# Altium schematic symbol library M74R2_Library.SchLib: 74 symbols
Pins are listed as number, name and electrical type; pins without a type are passive.

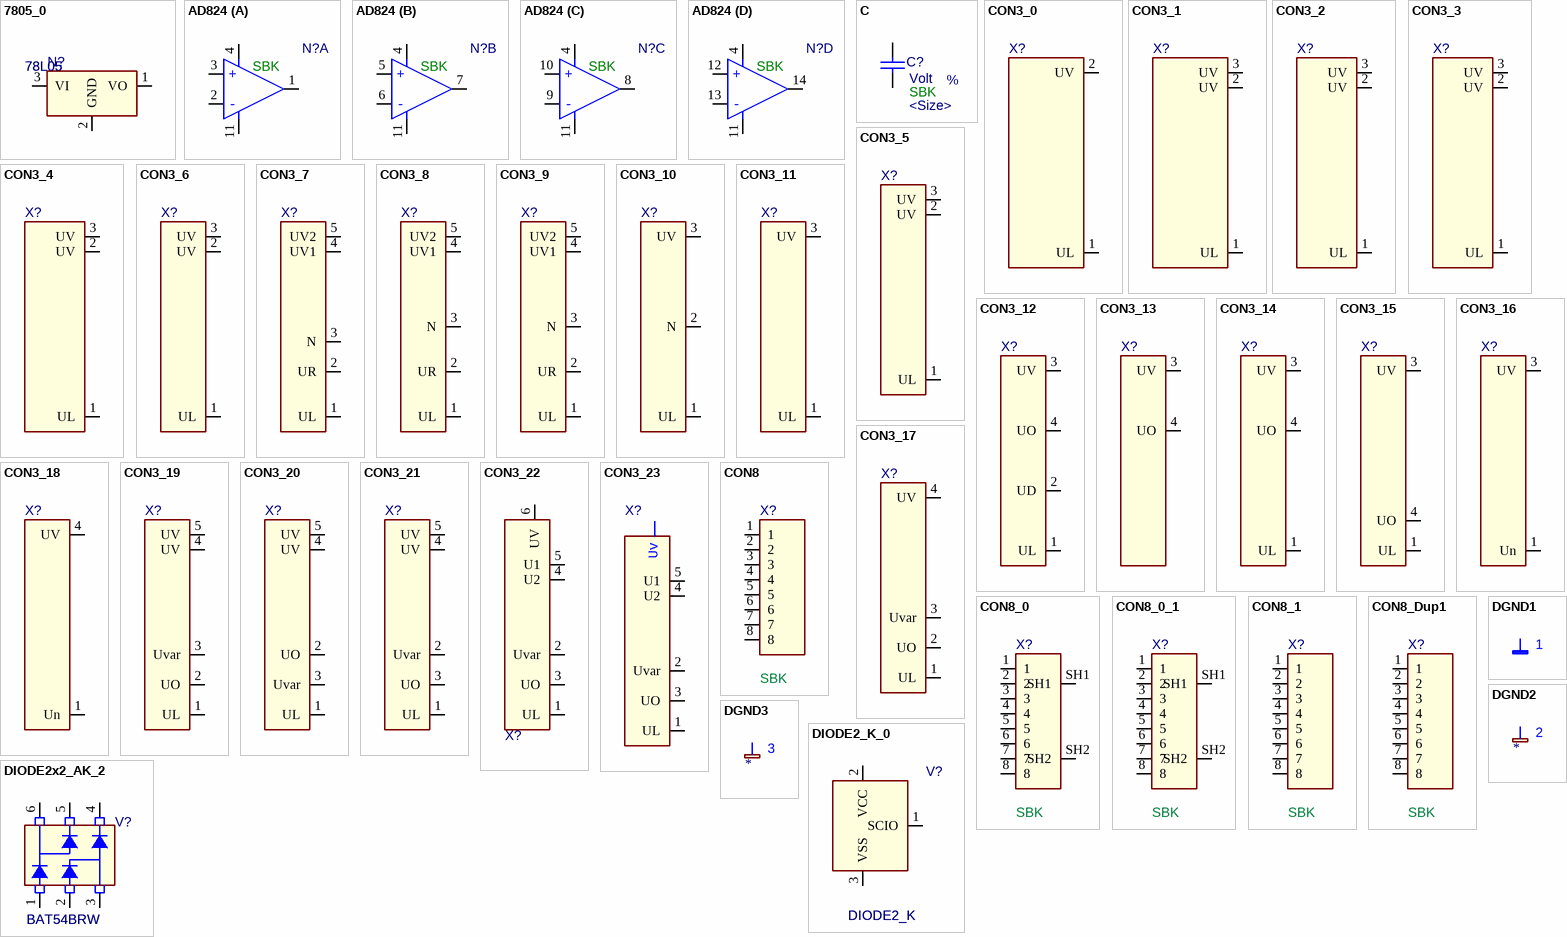
[diagram p0: symbols 7805_0 to DIODE2x2_AK_2]

## 7805_0
designator N?, comment 78L05
Value: 78L05
footprint T54A
pins: 1 VO, 2 GND, 3 VI

## AD824
designator N?  MEGA_ID: SBK
part A pins: 1 OUT, 2 IN-, 3 IN+, 4 V+, 11 V-
part B pins: 4 V+, 5 IN+, 6 IN-, 7 OUT, 11 V-
part C pins: 4 V+, 8 OUT, 9 IN-, 10 IN+, 11 V-
part D pins: 4 V+, 11 V-, 12 IN+, 13 IN-, 14 OUT
part A text: +; -
part B text: +; -
part C text: +; -
part D text: +; -

## C
designator C?  Size: <Size>  MEgA_ID: SBK  Tolerance: %  Voltage: Volt
footprint Z0805
pins: 1, 2

## CON3_0
designator X?
pins: 1 UL, 2 UV

## CON3_1
designator X?
pins: 1 UL, 2 UV, 3 UV

## CON3_2
designator X?
pins: 1 UL, 2 UV, 3 UV

## CON3_3
designator X?
pins: 1 UL, 2 UV, 3 UV

## CON3_4
designator X?
pins: 1 UL, 2 UV, 3 UV

## CON3_5
designator X?
pins: 1 UL, 2 UV, 3 UV

## CON3_6
designator X?
pins: 1 UL, 2 UV, 3 UV

## CON3_7
designator X?
pins: 1 UL, 2 UR, 3 N, 4 UV1, 5 UV2

## CON3_8
designator X?
pins: 1 UL, 2 UR, 3 N, 4 UV1, 5 UV2

## CON3_9
designator X?
pins: 1 UL, 2 UR, 3 N, 4 UV1, 5 UV2

## CON3_10
designator X?
pins: 1 UL, 2 N, 3 UV

## CON3_11
designator X?
pins: 1 UL, 3 UV

## CON3_12
designator X?
pins: 1 UL, 2 UD, 3 UV, 4 UO

## CON3_13
designator X?
pins: 3 UV, 4 UO

## CON3_14
designator X?
pins: 1 UL, 3 UV, 4 UO

## CON3_15
designator X?
pins: 1 UL, 3 UV, 4 UO

## CON3_16
designator X?
pins: 1 Un, 3 UV

## CON3_17
designator X?
pins: 1 UL, 2 UO, 3 Uvar, 4 UV

## CON3_18
designator X?
pins: 1 Un, 4 UV

## CON3_19
designator X?
pins: 1 UL, 2 UO, 3 Uvar, 4 UV, 5 UV

## CON3_20
designator X?
pins: 1 UL, 2 UO, 3 Uvar, 4 UV, 5 UV

## CON3_21
designator X?
pins: 1 UL, 2 Uvar, 3 UO, 4 UV, 5 UV

## CON3_22
designator X?
pins: 1 UL, 2 Uvar, 3 UO, 4 U2, 5 U1, 6 UV

## CON3_23
designator X?
pins: 1 UL, 2 Uvar, 3 UO, 4 U2, 5 U1
text: Uv

## CON8
designator X?  MEGA_ID: SBK
Potisk
pins: 1, 2, 3, 4, 5, 6, 7, 8

## CON8_0
designator X?  MEGA_ID: SBK
Potisk
pins: 1, 2, 3, 4, 5, 6, 7, 8, SH1, SH2

## CON8_0_1
designator X?  MEGA_ID: SBK
Potisk
pins: 1, 2, 3, 4, 5, 6, 7, 8, SH1, SH2

## CON8_1
designator X?  MEGA_ID: SBK
Potisk
pins: 1, 2, 3, 4, 5, 6, 7, 8

## CON8_Dup1
designator X?  MEGA_ID: SBK
Potisk
pins: 1, 2, 3, 4, 5, 6, 7, 8

## DGND1
designator *  (value not drawn)  (graphical)
pins: $PIN0 (power) hidden to $PIN0
text: 1

## DGND2
designator *  (value not drawn)
pins: $PIN0 (power) hidden to $PIN0
text: 2

## DGND3
designator *  (value not drawn)
pins: $PIN0 (power) hidden to $PIN0
text: 3

## DIODE2_K_0
designator V?, comment DIODE2_K
Value: DIODE2_K
footprint SOT23
pins: 1 SCIO, 2 VCC, 3 VSS

## DIODE2x2_AK_2
designator V?, comment BAT54BRW
Value: BAT54BRW
footprint ZSOT363
pins: 1 A1, 2 A2, 3 AK2, 4 K2, 5 K1, 6 AK1

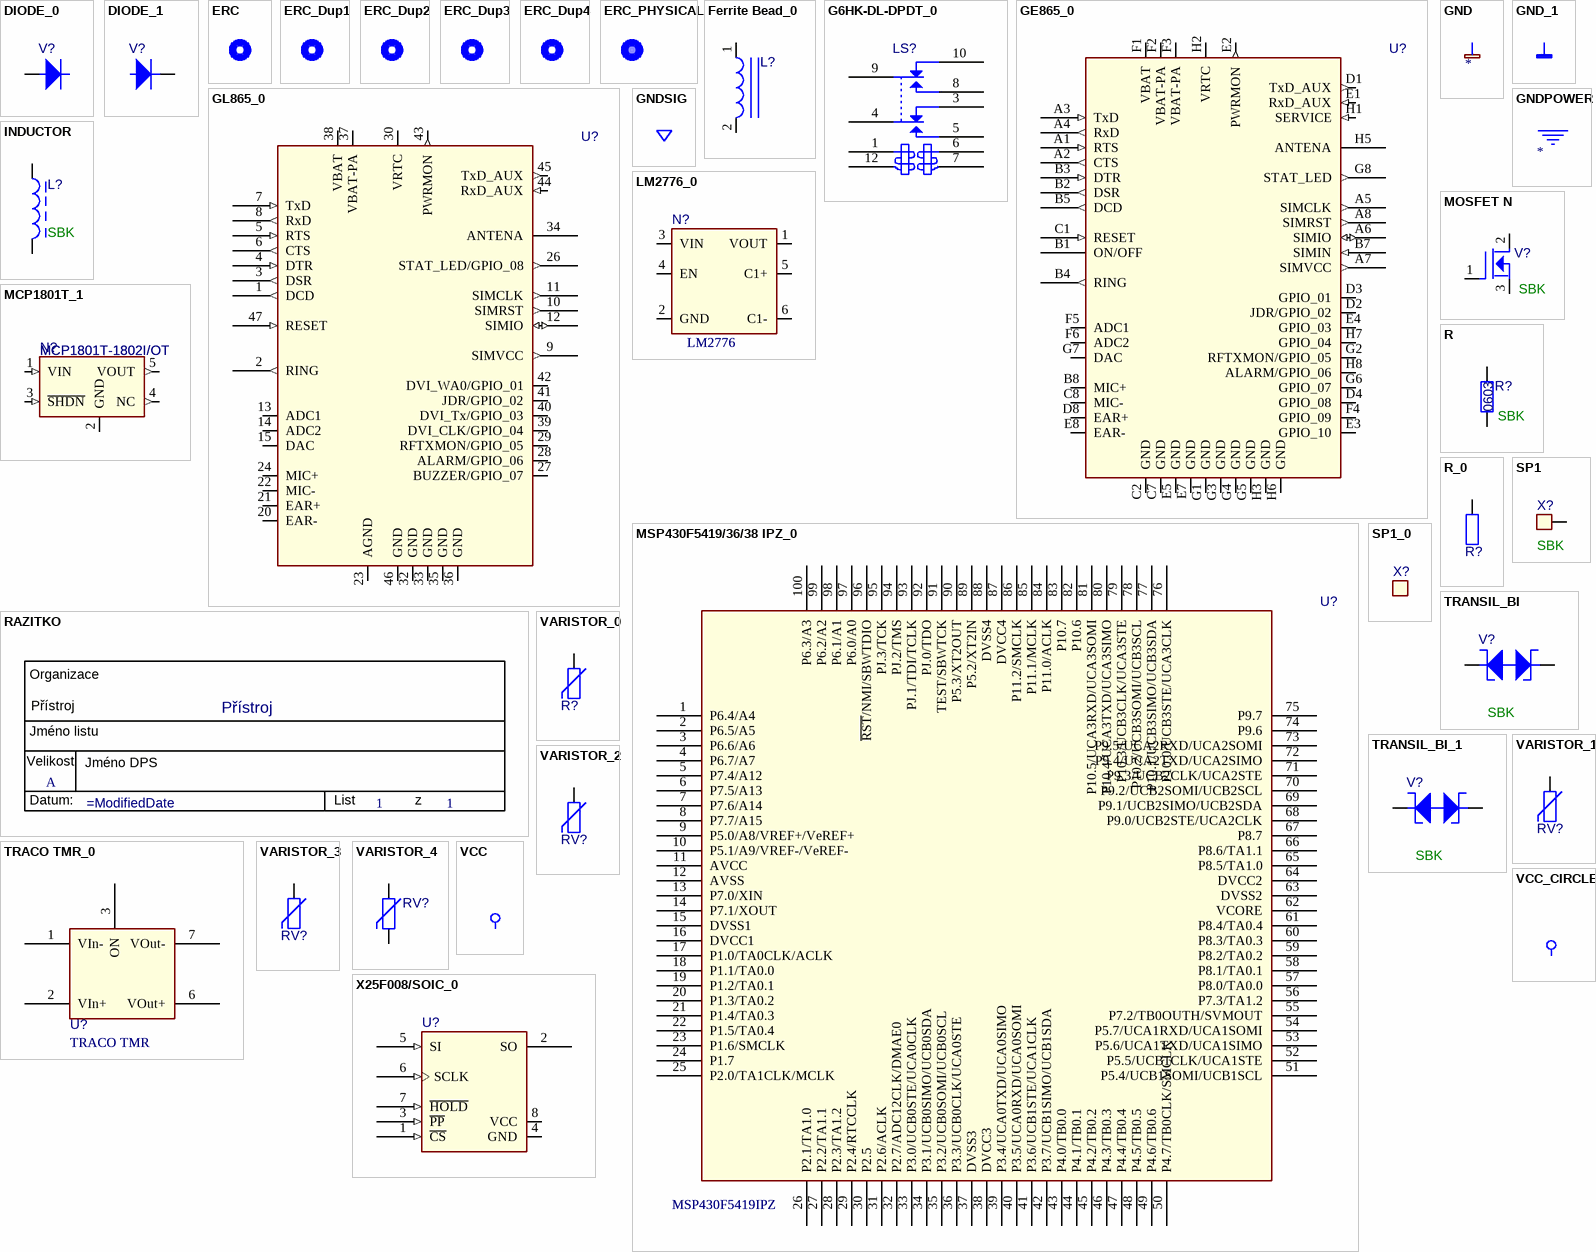
[diagram p1: symbols DIODE_0 to X25F008/SOIC_0]

## DIODE_0
designator V?
pins: 1 A

## DIODE_1
designator V?
pins: 2 K

## ERC
designator *  (value not drawn)  (graphical)

## ERC_Dup1
designator *  (value not drawn)  (graphical)

## ERC_Dup2
designator *  (value not drawn)  (graphical)

## ERC_Dup3
designator *  (value not drawn)  (graphical)

## ERC_Dup4
designator *  (value not drawn)  (graphical)

## ERC_PHYSICAL
designator *  (value not drawn)  (graphical)

## Ferrite Bead_0
designator L?
pins: 1, 2

## G6HK-DL-DPDT_0
designator LS?
pins: 1 SET+, 3 NC1, 4 COMMON1, 5 NO1, 6 RESET+, 7 RESET-, 8 NO2, 9 COMMON2, 10 NC2, 12 SET-

## GE865_0
designator U?
pins: A1 RTS (in), A2 CTS (out), A3 TxD (in), A4 RxD (out), A5 SIMCLK (out), A6 SIMIO (io), A7 SIMVCC (out), A8 SIMRST (out), B1 ON/OFF, B2 DSR (out), B3 DTR (in), B4 RING (out), B5 DCD (out), B7 SIMIN (in), B8 MIC+, C1 RESET (in), C2 GND (power), C7 GND (power), C8 MIC-, D1 TxD_AUX (out), D2 JDR/GPIO_02 (io), D3 GPIO_01 (io), D4 GPIO_08 (io), D8 EAR+, E1 RxD_AUX (in), E2 PWRMON (out), E3 GPIO_10 (io), E4 GPIO_03 (io), E5 GND (power), E7 GND (power), E8 EAR-, F1 VBAT (power), F2 VBAT-PA (power), F3 VBAT-PA (power), F4 GPIO_09 (io), F5 ADC1, F6 ADC2, G1 GND (power), G2 RFTXMON/GPIO_05 (io), G3 GND (power), G4 GND (power), G5 GND (power), G6 GPIO_07 (io), G7 DAC, G8 STAT_LED (out), H1 SERVICE (in), H2 VRTC, H3 GND (power), H5 ANTENA, H6 GND (power), H7 GPIO_04 (io), H8 ALARM/GPIO_06 (io)

## GL865_0
designator U?
pins: 1 DCD (out), 2 RING (out), 3 DSR (out), 4 DTR (in), 5 RTS (in), 6 CTS (out), 7 TxD (in), 8 RxD (out), 9 SIMVCC (out), 10 SIMRST (out), 11 SIMCLK (out), 12 SIMIO (io), 13 ADC1, 14 ADC2, 15 DAC, 20 EAR-, 21 EAR+, 22 MIC-, 23 AGND (power), 24 MIC+, 26 STAT_LED/GPIO_08 (out), 27 BUZZER/GPIO_07 (io), 28 ALARM/GPIO_06 (io), 29 RFTXMON/GPIO_05 (io), 30 VRTC, 32 GND (power), 33 GND (power), 34 ANTENA, 35 GND (power), 36 GND (power), 37 VBAT-PA (power), 38 VBAT (power), 39 DVI_CLK/GPIO_04 (io), 40 DVI_Tx/GPIO_03 (io), 41 JDR/GPIO_02 (io), 42 DVI_WA0/GPIO_01 (io), 43 PWRMON (out), 44 RxD_AUX (in), 45 TxD_AUX (out), 46 GND (power), 47 RESET (in)

## GND
designator *  (value not drawn)
pins: $PIN0 (power) hidden to $PIN0

## GND_1
designator *  (value not drawn)  (graphical)
pins: $PIN0 (power) hidden to $PIN0

## GNDPOWER
designator *  (value not drawn)
SDTSourceLibName: C:\rd\ui\DEVICE.LIB
pins: GND (power) hidden to GND

## GNDSIG
designator *  (value not drawn)  (graphical)
pins: GNDSIG (power) hidden to GNDSIG

## INDUCTOR
designator L?  MEGA_ID: SBK
pins: 1, 2

## LM2776_0
designator N?, comment LM2776
Value: LM2776
footprint SOT23-6
pins: 1 VOUT, 2 GND, 3 VIN, 4 EN, 5 C1+ (oe), 6 C1- (oc)

## MCP1801T_1
designator N?, comment MCP1801T-1802I/OT
Value: MCP1801T-1802I/OT
footprint ZSOT23_5
pins: 1 VIN (in), 2 GND, 3 ~{SHDN} (in), 4 NC (out), 5 VOUT (out)

## MOSFET N
designator V?  MEGA_ID: SBK
pins: 1 G, 2 D, 3 S

## MSP430F5419/36/38 IPZ_0
designator U?, comment MSP430F5419IPZ
Value: MSP430F5419IPZ
pins: 1 P6.4/A4, 2 P6.5/A5, 3 P6.6/A6, 4 P6.7/A7, 5 P7.4/A12, 6 P7.5/A13, 7 P7.6/A14, 8 P7.7/A15, 9 P5.0/A8/VREF+/VeREF+, 10 P5.1/A9/VREF-/VeREF-, 11 AVCC (power), 12 AVSS (power), 13 P7.0/XIN, 14 P7.1/XOUT, 15 DVSS1 (power), 16 DVCC1 (power), 17 P1.0/TA0CLK/ACLK, 18 P1.1/TA0.0, 19 P1.2/TA0.1, 20 P1.3/TA0.2, 21 P1.4/TA0.3, 22 P1.5/TA0.4, 23 P1.6/SMCLK, 24 P1.7, 25 P2.0/TA1CLK/MCLK, 26 P2.1/TA1.0, 27 P2.2/TA1.1, 28 P2.3/TA1.2, 29 P2.4/RTCCLK, 30 P2.5, 31 P2.6/ACLK, 32 P2.7/ADC12CLK/DMAE0, 33 P3.0/UCB0STE/UCA0CLK, 34 P3.1/UCB0SIMO/UCB0SDA, 35 P3.2/UCB0SOMI/UCB0SCL, 36 P3.3/UCB0CLK/UCA0STE, 37 DVSS3 (power), 38 DVCC3 (power), 39 P3.4/UCA0TXD/UCA0SIMO, 40 P3.5/UCA0RXD/UCA0SOMI, 41 P3.6/UCB1STE/UCA1CLK, 42 P3.7/UCB1SIMO/UCB1SDA, 43 P4.0/TB0.0, 44 P4.1/TB0.1, 45 P4.2/TB0.2, 46 P4.3/TB0.3, 47 P4.4/TB0.4, 48 P4.5/TB0.5, 49 P4.6/TB0.6, 50 P4.7/TB0CLK/SMCLK, 51 P5.4/UCB1SOMI/UCB1SCL, 52 P5.5/UCB1CLK/UCA1STE, 53 P5.6/UCA1TXD/UCA1SIMO, 54 P5.7/UCA1RXD/UCA1SOMI, 55 P7.2/TB0OUTH/SVMOUT, 56 P7.3/TA1.2, 57 P8.0/TA0.0, 58 P8.1/TA0.1, 59 P8.2/TA0.2, 60 P8.3/TA0.3, 61 P8.4/TA0.4, 62 VCORE (power), 63 DVSS2 (power), 64 DVCC2 (power), 65 P8.5/TA1.0, 66 P8.6/TA1.1, 67 P8.7, 68 P9.0/UCB2STE/UCA2CLK, 69 P9.1/UCB2SIMO/UCB2SDA, 70 P9.2/UCB2SOMI/UCB2SCL, 71 P9.3/UCB2CLK/UCA2STE, 72 P9.4/UCA2TXD/UCA2SIMO, 73 P9.5/UCA2RXD/UCA2SOMI, 74 P9.6, 75 P9.7, 76 P10.0/UCB3STE/UCA3CLK, 77 P10.1/UCB3SIMO/UCB3SDA, 78 P10.2/UCB3SOMI/UCB3SCL, 79 P10.3/UCB3CLK/UCA3STE, 80 P10.4/UCA3TXD/UCA3SIMO, 81 P10.5/UCA3RXD/UCA3SOMI, 82 P10.6, 83 P10.7, 84 P11.0/ACLK, 85 P11.1/MCLK, 86 P11.2/SMCLK, 87 DVCC4 (power), 88 DVSS4 (power), 89 P5.2/XT2IN, 90 P5.3/XT2OUT, 91 TEST/SBWTCK, 92 PJ.0/TDO, 93 PJ.1/TDI/TCLK, 94 PJ.2/TMS, 95 PJ.3/TCK, 96 ~{RST}/NMI/SBWTDIO, 97 P6.0/A0, 98 P6.1/A1, 99 P6.2/A2, 100 P6.3/A3

## R
designator R?  Size: 0603  MEgA_ID: SBK
footprint Z0805
pins: 1, 2

## R_0
designator R?
footprint Z0805
pins: 1

## RAZITKO
designator *  Page Count: 1  Page Size: A  OrgAddr1: Přístroj  (hidden comment: *)  (graphical)
RevCode: 0; Page Number: 1; Page Create Date: March  8, 1995; Page Modify Date: =ModifiedDate
text: Organizace; Jméno listu; Velikost; Jméno DPS; Datum:; List; z

## SP1
designator X?  MEGA_ID: SBK
Potisk
pins: 1

## SP1_0
designator X?

## TRACO TMR_0
designator U?, comment TRACO TMR
Value: TRACO TMR
pins: 1 VIn- (power), 2 VIn+ (power), 3 ON, 6 VOut+ (power), 7 VOut- (power)

## TRANSIL_BI
designator V?  MEGA_ID: SBK
pins: 1 A, 2 K

## TRANSIL_BI_1
designator V?  MEGA_ID: SBK
pins: 1 A, 2 K

## VARISTOR_0
designator R?
pins: 1

## VARISTOR_1
designator RV?
pins: 1

## VARISTOR_2
designator RV?
pins: 1

## VARISTOR_3
designator RV?
pins: 1

## VARISTOR_4
designator RV?
pins: 1, 2

## VCC
designator *  (value not drawn)  (graphical)
pins: $PIN0 (power) hidden to $PIN0

## VCC_CIRCLE
designator *  (value not drawn)  (graphical)
pins: $PIN0 (power) hidden to $PIN0

## X25F008/SOIC_0
designator U?
pins: 1 ~{CS} (in), 2 SO (hiz), 3 ~{PP} (in), 4 GND, 5 SI (in), 6 SCLK (in), 7 ~{HOLD} (in), 8 VCC